# Altium footprint library X4SIP02.PcbLib: 8 footprints
Each footprint in its own frame and in the unit in brackets; x right, y up, seen from the top. Pads: shape width x height; smd on the part's side, far side on the other; paste and mask are expansions set on the pad; w line width, h text height; cw(c..) or ccw(c..) is an arc to the next point about the centre after c.
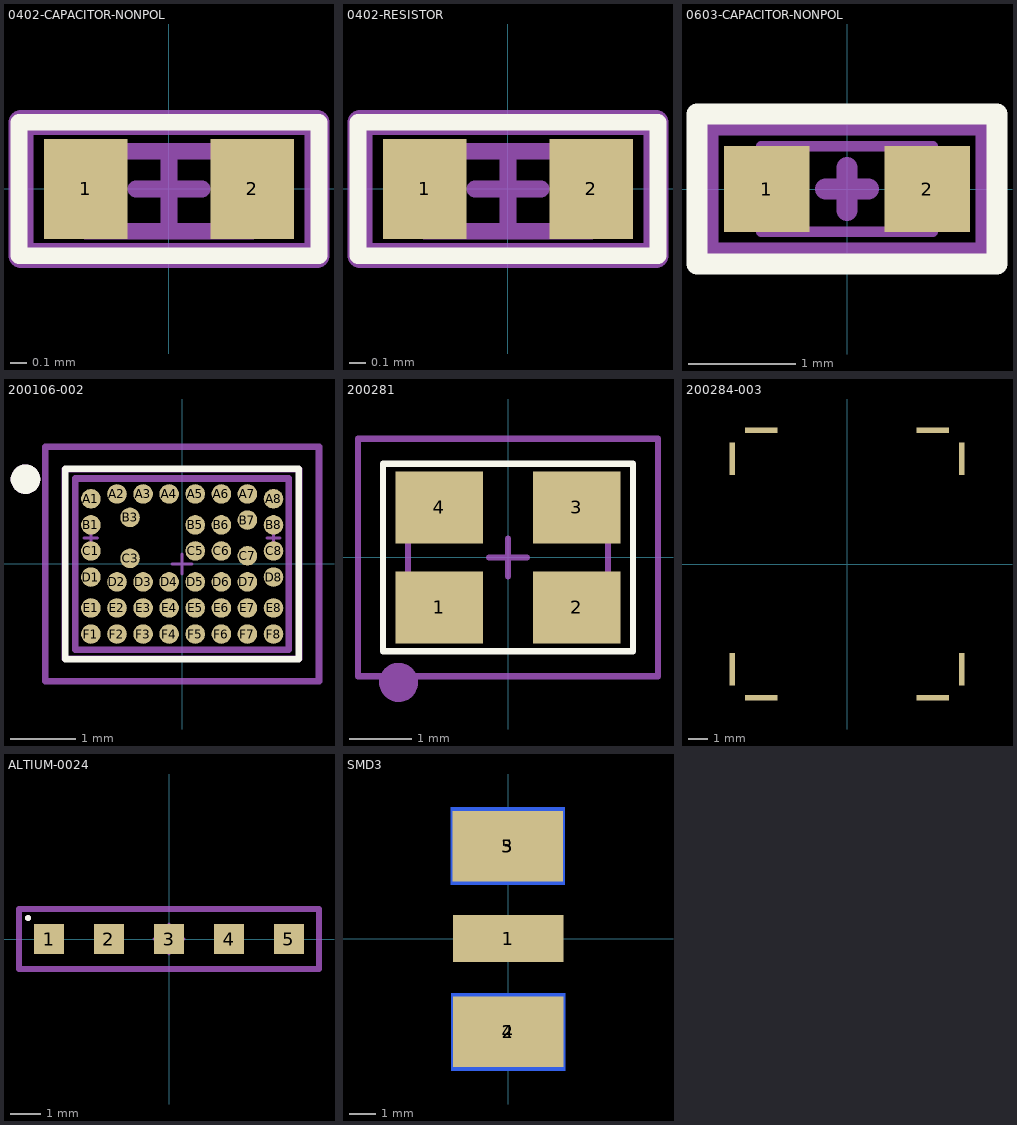
[diagram p0: the footprints below, top view; thin cyan lines are the x and y axes]

## 0402-CAPACITOR-NONPOL [mm]
height 1
pads (2):
  rect 0.5x0.6 smd mask+0.051: 1(-0.5,0) 2(0.5,0)
Top Overlay:
  lines w0.1: -0.9,-0.4 -0.9,0.4 0.9,0.4 0.9,-0.4 -0.9,-0.4
Mechanical 13:
  lines w0.1: -0.5,-0.254 -0.5,0.226 0.5,0.226 0.5,-0.254 -0.5,-0.254
Mechanical 15:
  lines w0.1: -0.2,0 0,0 0.2,0 ; 0,-0.2 0,0.2
Mechanical 16:
  lines w0.15: -0.889,-0.4 -0.889,0.4 0.889,0.4 0.889,-0.4 -0.889,-0.4
3D body: height 0.49, standoff -0.01, extent -0.5,-0.25 0.5,0.25

## 0402-RESISTOR [mm]
height 1
pads (2):
  rect 0.5x0.6 smd mask+0.051: 1(-0.5,0) 2(0.5,0)
Top Overlay:
  lines w0.1: -0.9,-0.4 -0.9,0.4 0.9,0.4 0.9,-0.4 -0.9,-0.4
Mechanical 13:
  lines w0.1: -0.5,-0.254 0.5,-0.254 0.5,0.226 -0.5,0.226 -0.5,-0.254
Mechanical 15:
  lines w0.1: -0.2,0 0,0 0.2,0 ; 0,-0.2 0,0.2
Mechanical 16:
  lines w0.15: -0.889,-0.4 0.889,-0.4 0.889,0.4 -0.889,0.4 -0.889,-0.4
3D body: height 0.3, standoff 0, extent -0.5,-0.25 0.5,0.25

## 0603-CAPACITOR-NONPOL [mm] "Minimal footprint for high density"
height 0.5
pads (2):
  rect 0.8x0.8 smd: 1(-0.75,0) 2(0.75,0)
Top Overlay:
  lines w0.2: -1.4,-0.7 -1.4,0.7 1.4,0.7 1.4,-0.7 -1.4,-0.7
Mechanical 13:
  lines w0.1: -0.8,-0.4 -0.8,0.4 0.8,0.4 0.8,-0.4 -0.8,-0.4
Mechanical 15:
  lines w0.2: -0.2,0 0.2,0 ; 0,-0.2 0,0.2
Mechanical 16:
  lines w0.2: -1.3,-0.6 -1.3,0.6 1.3,0.6 1.3,-0.6 -1.3,-0.6
3D body: height 0.79, standoff 0, extent -0.8,-0.4 0.8,0.4

## 200106-002 [mm]
pads (44):
  round 0.3 smd paste-0.015 mask-0.05: A1(-1.398,1) A2(-0.998,1.074) A3(-0.597,1.074) A4(-0.198,1.074) A5(0.202,1.074) A6(0.603,1.074) A7(1.002,1.074) A8(1.402,1) B1(-1.398,0.6) B3(-0.798,0.714) B5(0.202,0.6) B6(0.603,0.6) B7(1.002,0.674) B8(1.402,0.6) C1(-1.398,0.2) C3(-0.798,0.086) C5(0.202,0.2) C6(0.603,0.2) C7(1.002,0.126) C8(1.402,0.2) D1(-1.398,-0.2) D2(-0.998,-0.274) D3(-0.597,-0.274) D4(-0.198,-0.274) D5(0.202,-0.274) D6(0.603,-0.274) D7(1.002,-0.274) D8(1.402,-0.2) E1(-1.398,-0.674) E2(-0.998,-0.674) E3(-0.597,-0.674) E4(-0.198,-0.674) E5(0.202,-0.674) E6(0.603,-0.674) E7(1.002,-0.674) E8(1.402,-0.674) F1(-1.398,-1.074) F2(-0.998,-1.074) F3(-0.598,-1.074) F4(-0.198,-1.074) F5(0.202,-1.074) F6(0.603,-1.074) F7(1.002,-1.074) F8(1.402,-1.074)
Top Overlay:
  circle w0.254: c-2.4,1.3 r0.1
  lines w0.1: -1.79,-1.462 -1.79,1.462 ; -1.79,-1.462 1.79,-1.462 ; -1.79,1.462 1.79,1.462 ; 1.79,-1.462 1.79,1.462
Mechanical 13:
  lines w0.1: -1.64,-1.312 1.639,-1.312 1.639,1.311 -1.64,1.311 -1.64,-1.312
Mechanical 15:
  lines w0.05: -1.502,0.4 -1.302,0.4 ; -1.398,0.3 -1.398,0.5 ; -0.15,-0.001 0.15,-0.001 ; 0,-0.151 0,0.149 ; 1.302,0.4 1.502,0.4 ; 1.402,0.3 1.402,0.5
  lines w0.1: -2.1,-1.8 2.1,-1.8 2.1,1.8 -2.1,1.8 -2.1,-1.8
Mechanical 16:
  circle w0.254: c-2.4,1.3 r0.1
  lines w0.1: -1.8,-1.45 -1.8,1.45 1.8,1.45 1.8,-1.45 -1.8,-1.45
3D body: height 0.25, standoff 0, extent -1.522,-1.199 -1.274,-0.95
3D body: height 0.58, standoff 0.2, extent -1.64,-1.312 1.639,1.311
3D body: height 0.25, standoff 0, extent -1.122,-1.199 -0.874,-0.95
3D body: height 0.25, standoff 0, extent -0.722,-1.199 -0.474,-0.95
3D body: height 0.25, standoff 0, extent -0.322,-1.199 -0.074,-0.95
3D body: height 0.25, standoff 0, extent 0.078,-1.199 0.326,-0.95
3D body: height 0.25, standoff 0, extent 0.478,-1.199 0.726,-0.95
3D body: height 0.25, standoff 0, extent 0.878,-1.199 1.126,-0.95
3D body: height 0.25, standoff 0, extent 1.278,-1.199 1.526,-0.95
3D body: height 0.25, standoff 0, extent -1.522,-0.799 -1.274,-0.55
3D body: height 0.25, standoff 0, extent -1.122,-0.799 -0.874,-0.55
3D body: height 0.25, standoff 0, extent -0.722,-0.799 -0.474,-0.55
3D body: height 0.25, standoff 0, extent -0.322,-0.799 -0.074,-0.55
3D body: height 0.25, standoff 0, extent 0.078,-0.799 0.326,-0.55
3D body: height 0.25, standoff 0, extent 0.478,-0.799 0.726,-0.55
3D body: height 0.25, standoff 0, extent 0.878,-0.799 1.126,-0.55
3D body: height 0.25, standoff 0, extent 1.278,-0.799 1.526,-0.55
3D body: height 0.25, standoff 0, extent -1.122,-0.399 -0.874,-0.15
3D body: height 0.25, standoff 0, extent -0.722,-0.399 -0.474,-0.15
3D body: height 0.25, standoff 0, extent -0.322,-0.399 -0.074,-0.15
3D body: height 0.25, standoff 0, extent 0.078,-0.399 0.326,-0.15
3D body: height 0.25, standoff 0, extent 0.478,-0.399 0.726,-0.15
3D body: height 0.25, standoff 0, extent 0.878,-0.399 1.126,-0.15
3D body: height 0.25, standoff 0, extent 1.278,0.075 1.526,0.324
3D body: height 0.25, standoff 0, extent 0.878,0.001 1.126,0.25
3D body: height 0.25, standoff 0, extent 0.478,0.075 0.726,0.324
3D body: height 0.25, standoff 0, extent 0.078,0.075 0.326,0.324
3D body: height 0.25, standoff 0, extent 0.078,0.475 0.326,0.724
3D body: height 0.25, standoff 0, extent 0.478,0.475 0.726,0.724
3D body: height 0.25, standoff 0, extent 0.878,0.549 1.126,0.798
3D body: height 0.25, standoff 0, extent 1.278,0.475 1.526,0.724
3D body: height 0.25, standoff 0, extent -1.122,0.949 -0.874,1.198
3D body: height 0.25, standoff 0, extent -0.722,0.949 -0.474,1.198
3D body: height 0.25, standoff 0, extent -0.322,0.949 -0.074,1.198
3D body: height 0.25, standoff 0, extent 0.078,0.949 0.326,1.198
3D body: height 0.25, standoff 0, extent 0.478,0.949 0.726,1.198
3D body: height 0.25, standoff 0, extent 0.878,0.949 1.126,1.198
3D body: height 0.25, standoff 0, extent 1.278,0.875 1.526,1.124
3D body: height 0.25, standoff 0, extent 1.278,-0.325 1.526,-0.076
3D body: height 0.25, standoff 0, extent -1.522,-0.325 -1.274,-0.076
3D body: height 0.25, standoff 0, extent -1.522,0.075 -1.274,0.324
3D body: height 0.25, standoff 0, extent -1.522,0.475 -1.274,0.724
3D body: height 0.25, standoff 0, extent -1.522,0.875 -1.274,1.124
3D body: height 0.25, standoff 0, extent -0.922,0.589 -0.674,0.838
3D body: height 0.25, standoff 0, extent -0.922,-0.039 -0.674,0.21

## 200281 [mm]
height 0.8
pads (4):
  rect 1.4x1.15 smd: 1(-1.1,-0.8) 2(1.1,-0.8) 3(1.1,0.8) 4(-1.1,0.8)
Top Overlay:
  lines w0.1: -2,-1.5 -2,1.5 2,1.5 2,-1.5 -2,-1.5
Mechanical 13:
  lines w0.1: -1.6,-1.25 -1.6,1.25 ; 1.6,-1.25 1.6,1.25
Mechanical 15:
  lines w0.1: -0.3,0 0.3,0 ; 0,-0.3 0,0.3 ; -2.4,-1.9 -2.4,1.9 2.4,1.9 2.4,-1.9 -2.4,-1.9
Mechanical 16:
  circle w0.4: c-1.75,-2 r0.112
3D body: height 0.6, standoff 0, extent -1.6,-1.25 1.6,1.25

## 200284-003 [mm]
height 3
pads (8):
  rect 0.3x1.7 smd: 1(-6,-5.5) 1(-6,5.5) 1(6,-5.5) 1(6,5.5)
  rect 1.7x0.3 smd mask+0.102: 1(-4.5,-7)
  rect 1.7x0.3 smd: 1(-4.5,7) 1(4.5,-7) 1(4.5,7)
3D body: height 3, standoff 0, extent -6.1,-7.1 6.1,7.1

## ALTIUM-0024 [mm] "SMD CONNECTION PADS, 5, 0.6x0.6mm, 2mm PITCH"
pads (5):
  rect 1x1 smd paste-0.5: 1(-4,0) 2(-2,0) 3(0,0) 4(2,0) 5(4,0)
Top Overlay:
  circle w0.1: c-4.7,0.7 r0.05
Mechanical 15:
  lines w0.05: -5,-1 5,-1 5,1 -5,1 -5,-1
  lines w0.1: -0.5,0 0.5,0 ; 0,-0.5 0,0.5
Mechanical 16:
  circle w0.1: c-4.7,0.7 r0.05
  lines w0.1: -5,-1 5,-1 5,1 -5,1 -5,-1
  lines w0.2: -5,-1 -5,1 5,1 5,-1 -5,-1

## SMD3 [mil]
pads (5):
  rect 165x70 smd mask+2: 1(0,0)
  rect 165x105 smd mask+2: 2(0,-139) 3(-1,138)
  rect 170x115 smd far side mask+2: 4(0,-139) 5(-1,138)